# EAGLE library part STM32F407_BREAKOUT (library stm32f407breakout)
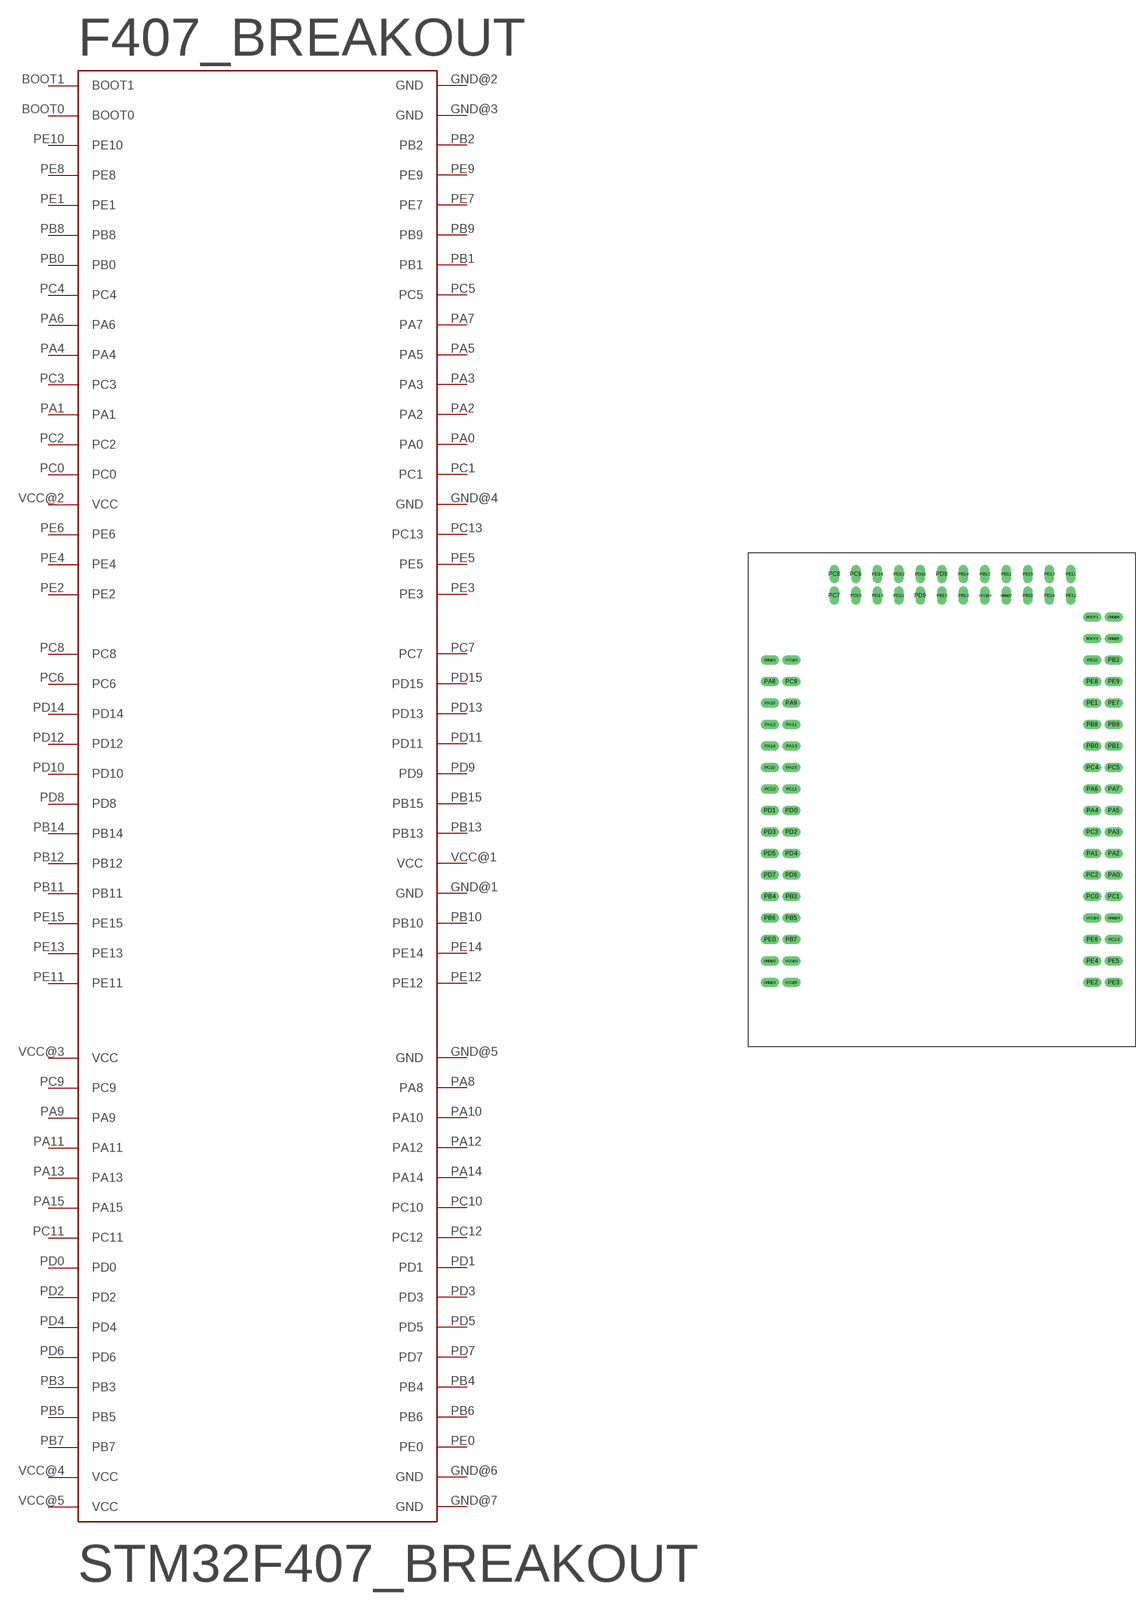
[diagram p0: symbol with the pads of STM32F407_BREAKOUT; footprint STM32F407_BREAKOUT]

Designator prefix F407_BREAKOUT

## STM32F407_BREAKOUT  [STM32F407_BREAKOUT]
BOOT0  BOOT0
BOOT1  BOOT1
GND@1  GND
GND@2  GND
GND@3  GND
GND@4  GND
GND@5  GND
GND@6  GND
GND@7  GND
PA0  PA0
PA1  PA1
PA2  PA2
PA3  PA3
PA4  PA4
PA5  PA5
PA6  PA6
PA7  PA7
PA8  PA8
PA9  PA9
PA10  PA10
PA11  PA11
PA12  PA12
PA13  PA13
PA14  PA14
PA15  PA15
PB0  PB0
PB1  PB1
PB2  PB2
PB3  PB3
PB4  PB4
PB5  PB5
PB6  PB6
PB7  PB7
PB8  PB8
PB9  PB9
PB10  PB10
PB11  PB11
PB12  PB12
PB13  PB13
PB14  PB14
PB15  PB15
PC0  PC0
PC1  PC1
PC2  PC2
PC3  PC3
PC4  PC4
PC5  PC5
PC6  PC6
PC7  PC7
PC8  PC8
PC9  PC9
PC10  PC10
PC11  PC11
PC12  PC12
PC13  PC13
PD0  PD0
PD1  PD1
PD2  PD2
PD3  PD3
PD4  PD4
PD5  PD5
PD6  PD6
PD7  PD7
PD8  PD8
PD9  PD9
PD10  PD10
PD11  PD11
PD12  PD12
PD13  PD13
PD14  PD14
PD15  PD15
PE0  PE0
PE1  PE1
PE2  PE2
PE3  PE3
PE4  PE4
PE5  PE5
PE6  PE6
PE7  PE7
PE8  PE8
PE9  PE9
PE10  PE10
PE11  PE11
PE12  PE12
PE13  PE13
PE14  PE14
PE15  PE15
VCC@1  VCC
VCC@2  VCC
VCC@3  VCC
VCC@4  VCC
VCC@5  VCC

## Footprint STM32F407_BREAKOUT (pad centres in mm)
drill 0.6 long: BOOT0 38.1,2.54; BOOT1 38.1,5.08; GND@1 0,0; GND@2 0,-35.56; GND@3 0,-38.1; GND@4 40.64,-30.48; GND@5 40.64,2.54; GND@6 40.64,5.08; GND@7 27.94,7.62; PA0 40.64,-25.4; PA1 38.1,-22.86; PA2 40.64,-22.86; PA3 40.64,-20.32; PA4 38.1,-17.78; PA5 40.64,-17.78; PA6 38.1,-15.24; PA7 40.64,-15.24; PA8 0,-2.54; PA9 2.54,-5.08; PA10 0,-5.08; PA11 2.54,-7.62; PA12 0,-7.62; PA13 2.54,-10.16; PA14 0,-10.16; PA15 2.54,-12.7; PB0 38.1,-10.16; PB1 40.64,-10.16; PB2 40.64,0; PB3 2.54,-27.94; PB4 0,-27.94; PB5 2.54,-30.48; PB6 0,-30.48; PB7 2.54,-33.02; PB8 38.1,-7.62; PB9 40.64,-7.62; PB10 30.48,7.62; PB11 27.94,10.16; PB12 25.4,10.16; PB13 22.86,7.62; PB14 22.86,10.16; PB15 20.32,7.62; PC0 38.1,-27.94; PC1 40.64,-27.94; PC2 38.1,-25.4; PC3 38.1,-20.32; PC4 38.1,-12.7; PC5 40.64,-12.7; PC6 10.16,10.16; PC7 7.62,7.62; PC8 7.62,10.16; PC9 2.54,-2.54; PC10 0,-12.7; PC11 2.54,-15.24; PC12 0,-15.24; PC13 40.64,-33.02; PD0 2.54,-17.78; PD1 0,-17.78; PD2 2.54,-20.32; PD3 0,-20.32; PD4 2.54,-22.86; PD5 0,-22.86; PD6 2.54,-25.4; PD7 0,-25.4; PD8 20.32,10.16; PD9 17.78,7.62; PD10 17.78,10.16; PD11 15.24,7.62; PD12 15.24,10.16; PD13 12.7,7.62; PD14 12.7,10.16; PD15 10.16,7.62; PE0 0,-33.02; PE1 38.1,-5.08; PE2 38.1,-38.1; PE3 40.64,-38.1; PE4 38.1,-35.56; PE5 40.64,-35.56; PE6 38.1,-33.02; PE7 40.64,-5.08; PE8 38.1,-2.54; PE9 40.64,-2.54; PE10 38.1,0; PE11 35.56,10.16; PE12 35.56,7.62; PE13 33.02,10.16; PE14 33.02,7.62; PE15 30.48,10.16; VCC@1 2.54,0; VCC@2 2.54,-35.56; VCC@3 38.1,-30.48; VCC@4 25.4,7.62; VCC@5 2.54,-38.1